# Altium footprint library 智能车驱动板DRV8701E.PcbLib: 13 footprints
Each footprint in its own frame and in the unit in brackets; x right, y up, seen from the top. Pads: shape width x height; smd on the part's side, far side on the other; paste and mask are expansions set on the pad; w line width, h text height; cw(c..) or ccw(c..) is an arc to the next point about the centre after c.
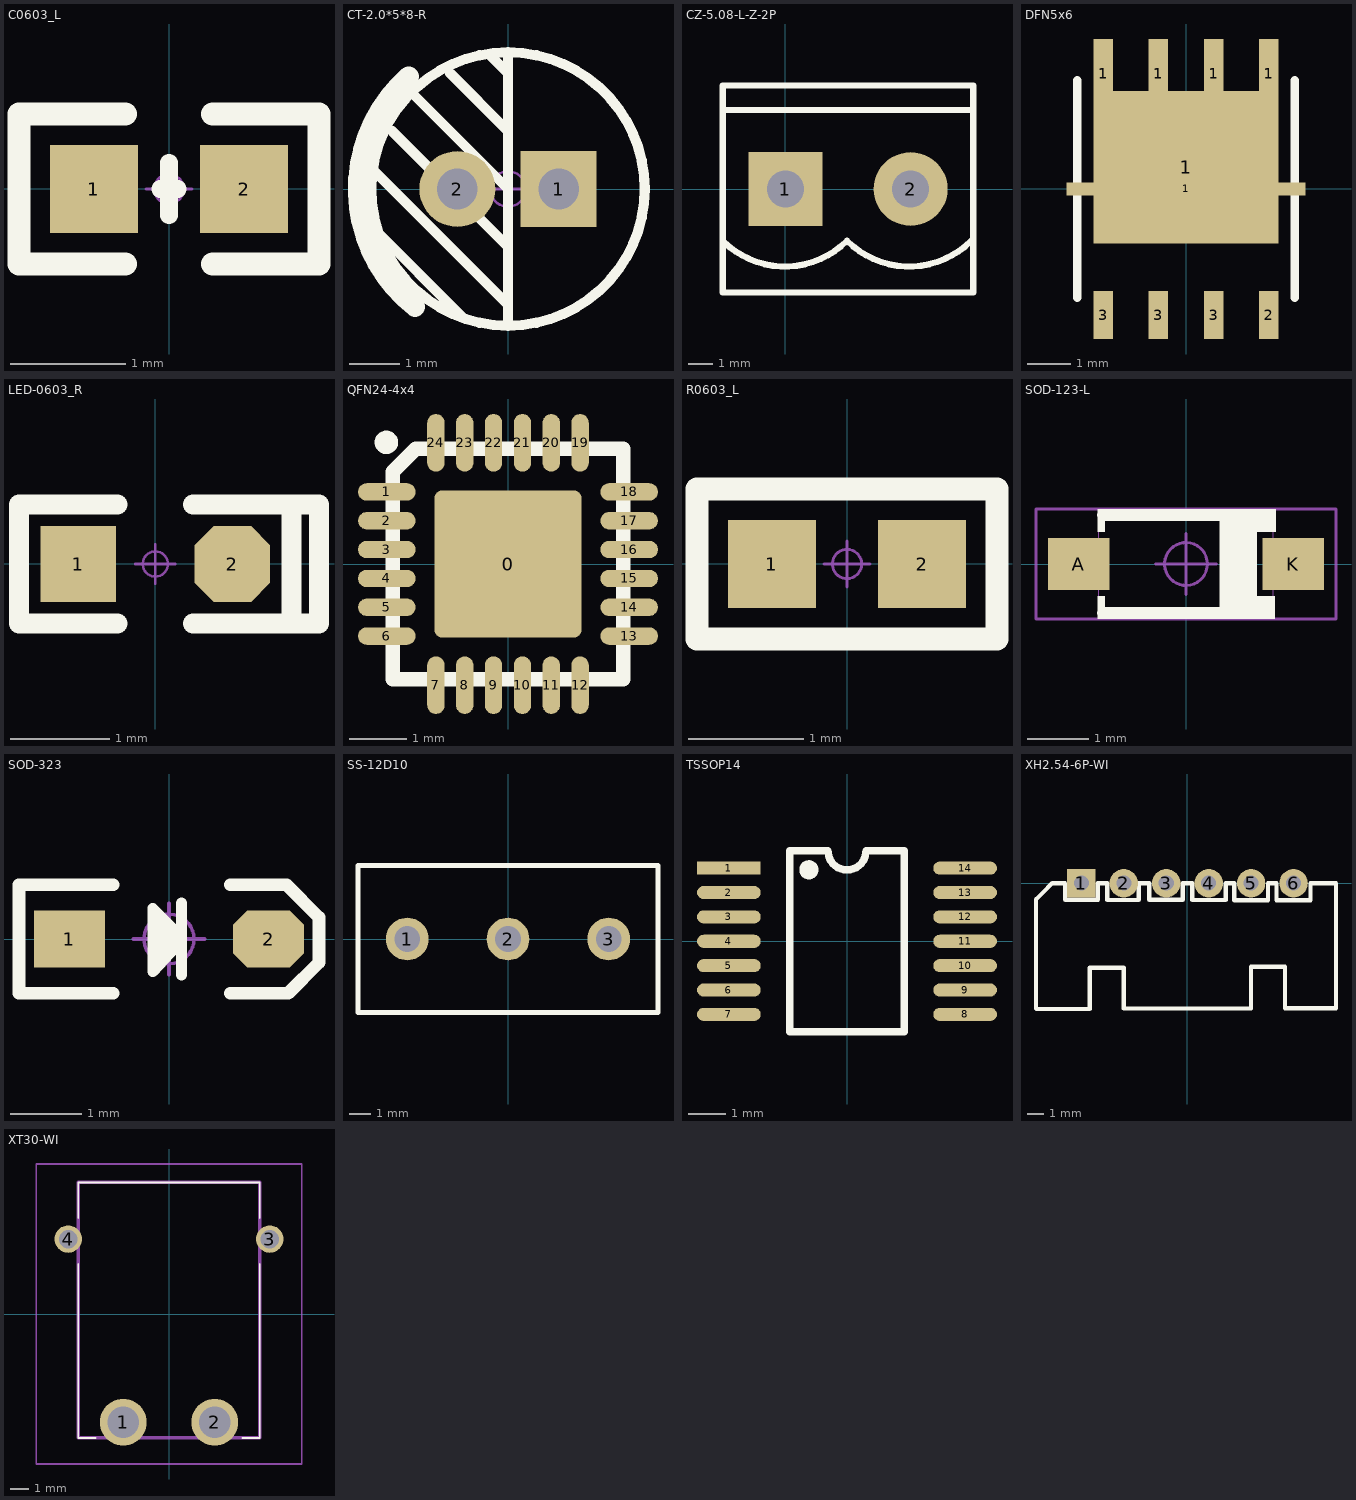
[diagram p0: the footprints below, top view; thin cyan lines are the x and y axes]

## C0603_L [mil] "无极性贴片电容"
height 50
pads (2):
  rect 30x30 smd: 1(-25.59,0) 2(25.59,0)
Top Overlay:
  lines w6: -3,0 0,0 3,0 ; 0,-9 0,9
  lines w8: -15,-25.59 -51.18,-25.59 -51.18,25.59 -15,25.59 ; 15,-25.59 51.18,-25.59 51.18,25.59 15,25.59
Mechanical 15:
  circle w1: c0,0 r5
  lines w1: -7.87,0 7.87,0 ; 0,-7.87 0,7.87
3D body "c_0603.STEP": height 32.89, standoff 0.61, extent -31.49,-16.14 31.51,16.14

## CT-2.0*5*8-R [mm] "脚距2mm , 直径5mm , 高8mm"
height 1.27
pads (2):
  rect 1.5x1.5 hole 0.8: 1(1,0)
  round 1.5 hole 0.8: 2(-1,0)
Top Overlay:
  circle w0.2: c0,0 r2.7
  lines w0.2: -2.667,-0.762 -0.889,-2.54 ; -2.667,0.381 0,-2.286 ; -2.286,1.143 0,-1.143 ; -1.905,1.905 0,0 ; -1.143,2.286 0,1.143 ; -0.381,2.667 0,2.286 ; 0,-2.667 0,2.667
  lines w0.4: -1.96,2.221 ccw(c0,0) -1.835,-2.325
Mechanical 15:
  circle w0.05: c0,0 r0.35
  lines w0.05: -0.5,0 0.5,0 ; 0,-0.5 0,0.5
3D body "CS_TH_5x8-R2.STEP": height 8.06, standoff -3.45, extent -2.5,-2.494 2.5,2.494

## CZ-5.08-L-Z-2P [mm]
height 1.27
pads (2):
  rect 3x3 hole 1.5: 1(0,0)
  round 3 hole 1.5: 2(5.08,0)
Top Overlay:
  lines w0.254: -2.54,-2.1 ccw(c-0.02,0.42) 2.5,-2.1 ccw(c5.02,0.42) 7.54,-2.1 ; -2.54,3.2 7.6,3.2 ; -2.54,-4.2 7.62,-4.2 7.62,4.2 -2.54,4.2 -2.54,-4.2
3D body "5.08立式直插-2P.STEP": height 10.27, standoff -3.93, extent -2.58,-4.25 7.58,4.15

## DFN5x6 [mm]
height 1.27
pads (10):
  rect 0.45x1.6 smd: 1(-1.905,2.65) 1(-0.635,2.65) 1(0.635,2.65) 1(1.905,2.65)
  rect 5.5x0.3 smd: 1(0,0)
  rect 4.25x3.5 smd: 1(0,0.5)
  rect 0.45x1.1 smd: 2(1.905,-2.9) 3(-1.905,-2.9) 3(-0.635,-2.9) 3(0.635,-2.9)
Top Overlay:
  lines w0.2: -2.5,-2.5 -2.5,2.5 ; 2.5,-2.5 2.5,2.5
3D body "User Library-SON5x6.STEP": height 1, standoff 0, extent -2.45,-3 2.45,3

## LED-0603_R [mil] "红色0603LED"
height 50
pads (2):
  rect 30x30 smd: 1(-30.59,0)
  oct 30x30 smd: 2(30.59,0)
Top Overlay:
  lines w8: -15.01,-23.63 -54.14,-23.63 -54.14,23.62 -15.01,23.62 ; 14.99,-23.63 65,-23.63 65,23.62 14.99,23.62 ; 54.13,-23.63 54.13,23.62
Mechanical 15:
  circle w1: c0,0 r5
  lines w1: -7.88,0 7.87,0 ; 0,-7.88 0,7.87
3D body "LED 0603玻璃罩.STEP": height 23.82, standoff 8.07, extent -23.63,-15.75 23.62,15.74
3D body "LED_0603-R.STEP": height 18.33, standoff -0.04, extent -31.5,-15.79 31.49,15.79

## QFN24-4x4 [mm]
height 1.27
pads (25):
  rrect10% 2.55x2.55 smd: 0(0,0)
  oval 1x0.3 smd: 1(-2.1,1.25) 2(-2.1,0.75) 3(-2.1,0.25) 4(-2.1,-0.25) 5(-2.1,-0.75) 6(-2.1,-1.25) 13(2.1,-1.25) 14(2.1,-0.75) 15(2.1,-0.25) 16(2.1,0.25) 17(2.1,0.75) 18(2.1,1.25)
  oval 0.3x1 smd: 7(-1.25,-2.1) 8(-0.75,-2.1) 9(-0.25,-2.1) 10(0.25,-2.1) 11(0.75,-2.1) 12(1.25,-2.1) 19(1.25,2.1) 20(0.75,2.1) 21(0.25,2.1) 22(-0.25,2.1) 23(-0.75,2.1) 24(-1.25,2.1)
Top Overlay:
  circle w0.203: c-2.108,2.108 r0.102
  lines w0.254: -2,-2 2,-2 2,2 -1.6,2 -2,1.6 -2,-2
3D body "User Library-QFN 24 4x4.step": height 0.9, standoff 0, extent -2.002,-2.002 2.002,2.002

## R0603_L [mil] "1/10W贴片电阻"
height 50
pads (2):
  rect 30x30 smd: 1(-25.59,0) 2(25.59,0)
Top Overlay:
  lines w8: -51.18,-25.59 51.18,-25.59 51.18,25.59 -51.18,25.59 -51.18,-25.59
Mechanical 15:
  circle w1: c0,0 r5
  lines w1: -7.87,0 7.87,0 ; 0,-7.87 0,7.87
3D body "0603.STEP": height 15.79, standoff 0, extent -31.49,-15.74 31.5,15.76

## SOD-123-L [mm]
height 1.27
pads (2):
  rect 1x0.85 smd: A(-1.75,0) K(1.75,0)
Top Overlay:
  rectangle: 0.55,-0.802 1.16,0.798
  rectangle: -1.448,0.525 -1.323,0.9
  region: -1.323,-0.525 -1.448,-0.525 -1.448,-0.9 -1.323,-0.9
  rectangle: 0.898,0.525 1.473,0.9
  region: 1.45,-0.525 0.85,-0.525 0.85,-0.9 1.45,-0.9
  lines w0.2: -1.35,-0.8 1.35,-0.8 ; -1.35,0.8 1.35,0.8
Mechanical 15:
  circle w0.05: c0,0 r0.35
  lines w0.001: -1.425,-0.9 -1.425,0.9 1.425,0.9 1.425,-0.9 -1.425,-0.9
  lines w0.05: -0.5,0 0.5,0 ; 0,-0.5 0,0.5 ; -2.45,-0.9 -2.45,0.9 2.45,0.9 2.45,-0.9 -2.45,-0.9
3D body "SOD-123.STEP": height 1.2, standoff 0, extent -1.85,-0.8 1.85,0.8

## SOD-323 [mm] "1.8x1.3X0.9mm（长宽高，不包括引脚）"
height 1.27
pads (2):
  rect 1x0.8 smd: 1(-1.4,0)
  oct 1x0.8 smd: 2(1.4,0)
Top Overlay:
  lines w0.152: 0.178,-0.508 0.178,0.508 ; 0.178,-0.025 -0.229,-0.457 -0.229,0.432 0.178,0.025
  lines w0.178: -0.787,-0.762 -2.108,-0.762 -2.108,0.762 -0.787,0.762 ; 0.864,-0.762 1.676,-0.762 2.108,-0.33 2.108,0.305 1.651,0.762 0.864,0.762
  lines w0.254: -0.127,0.254 -0.152,-0.178 0.025,-0.025 -0.025,0.127
Mechanical 15:
  circle w0.05: c0,0 r0.35
  lines w0.05: -0.5,0 0.5,0 ; 0,-0.5 0,0.5
3D body "SOD-323.STEP": height 0.95, standoff 0, extent -1.324,-0.65 1.324,0.65

## SS-12D10 [mm] "脚距3mm"
height 1.27
pads (3):
  round 2 hole 1.2: 1(-4.7,0) 2(0,0) 3(4.7,0)
Top Overlay:
  lines w0.254: -7,-3.429 7,-3.429 7,3.429 -7,3.429 -7,-3.429
3D body "SW-SLB12814.STEP": height 9.65, standoff -2.6, extent -7,-3.1 7,3.1

## TSSOP14 [mm]
height 1.27
pads (14):
  rect 1.7x0.35 smd: 1(-3.15,1.95)
  oval 1.7x0.35 smd: 2(-3.15,1.3) 3(-3.15,0.65) 4(-3.15,0) 5(-3.15,-0.65) 6(-3.15,-1.3) 7(-3.15,-1.95) 8(3.15,-1.95) 9(3.15,-1.3) 10(3.15,-0.65) 11(3.15,0) 12(3.15,0.65) 13(3.15,1.3) 14(3.15,1.95)
Top Overlay:
  circle w0.254: c-1.016,1.905 r0.13
  lines w0.2: -0.508,2.413 -1.524,2.413 -1.524,-2.413 1.524,-2.413 1.524,2.413 0.508,2.413 ; -0.506,2.373 ccw(c0,2.413) 0.506,2.373
3D body "TSSOP14.STEP": height 1.03, standoff -0.02, extent -3.202,-2.489 3.202,2.511

## XH2.54-6P-WI [mm] "接插件，6P"
height 1.27
pads (6):
  rect 1.7x1.7 hole 0.9: 1(-6.35,0)
  round 1.7 hole 0.9: 2(-3.81,0) 3(-1.27,0) 4(1.27,0) 5(3.81,0) 6(6.35,0)
Top Overlay:
  lines w0.254: -2.916,0 -2.916,-0.988 -2.93,-1.002 -4.796,-1.002 -4.796,0 -5.368,0 -5.368,-0.982 -5.354,-0.996 -7.31,-0.996 -7.324,-0.982 -7.324,0 -8.1,0 -8.682,-0.582 -9.066,-0.966 -9.066,-7.502 -9.04,-7.528 -5.842,-7.528 -5.842,-5.058 -3.81,-5.058 -3.81,-7.502 3.81,-7.502 3.81,-5.006 5.842,-5.006 5.842,-7.49 8.89,-7.49 8.89,0 7.366,0 7.366,-1.016 5.334,-1.016 5.334,0 4.826,0 4.826,-1.016 2.794,-1.016 2.794,0 2.286,0 2.286,-1.002 0.282,-1.002 0.282,0 ; -2.904,0 -2.306,0 ; -2.292,-0.996 -2.292,0 ; -2.272,-0.996 -0.284,-0.996 -0.278,-0.99 -0.278,0 0.268,0
3D body "XH2_54-6P_H.STEP": height 2.89, standoff -6.21, extent -8.855,-7.446 8.845,0.254

## XT30-WI [mm]
height 1.27
pads (4):
  round 2.55 hole 1.7: 1(-2.5,-5.912) 2(2.5,-5.912)
  round 1.5 hole 1: 3(5.5,4.088) 4(-5.5,4.088)
Top Overlay:
  lines w0.1: -4.95,2.737 -4.95,-6.762 -4,-6.762 ; -4.95,5.237 -4.95,7.187 4.95,7.187 4.95,5.237 ; 4,-6.762 4.95,-6.762 4.95,2.737
Mechanical 15:
  lines w0.2: -4.95,-6.762 4.95,-6.762 4.95,7.187 -4.95,7.187 -4.95,-6.762
Mechanical 20:
  lines w0.1: -7.25,-8.188 7.25,-8.188 7.25,8.188 -7.25,8.188 -7.25,-8.188
3D body "User Library-XT30PW-M.step": height 1.5, standoff -5.5, extent -6.65,-6.95 6.65,7